# Altium schematic symbol library SCH - OPAMP - TI TLV7031.SCHLIB: 1 symbol
Pins are listed as number, name and electrical type; pins without a type are passive.

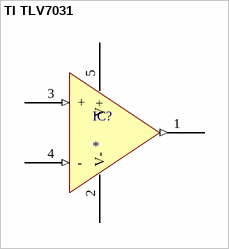
[diagram p0: symbol TI TLV7031]

## TI TLV7031
designator IC?
pins: 1 OUT (out), 2 V- (power), 3 + (in), 4 - (in), 5 V+ (power)